# Altium schematic symbol library J.SchLib: 141 symbols (part 2 of 2)
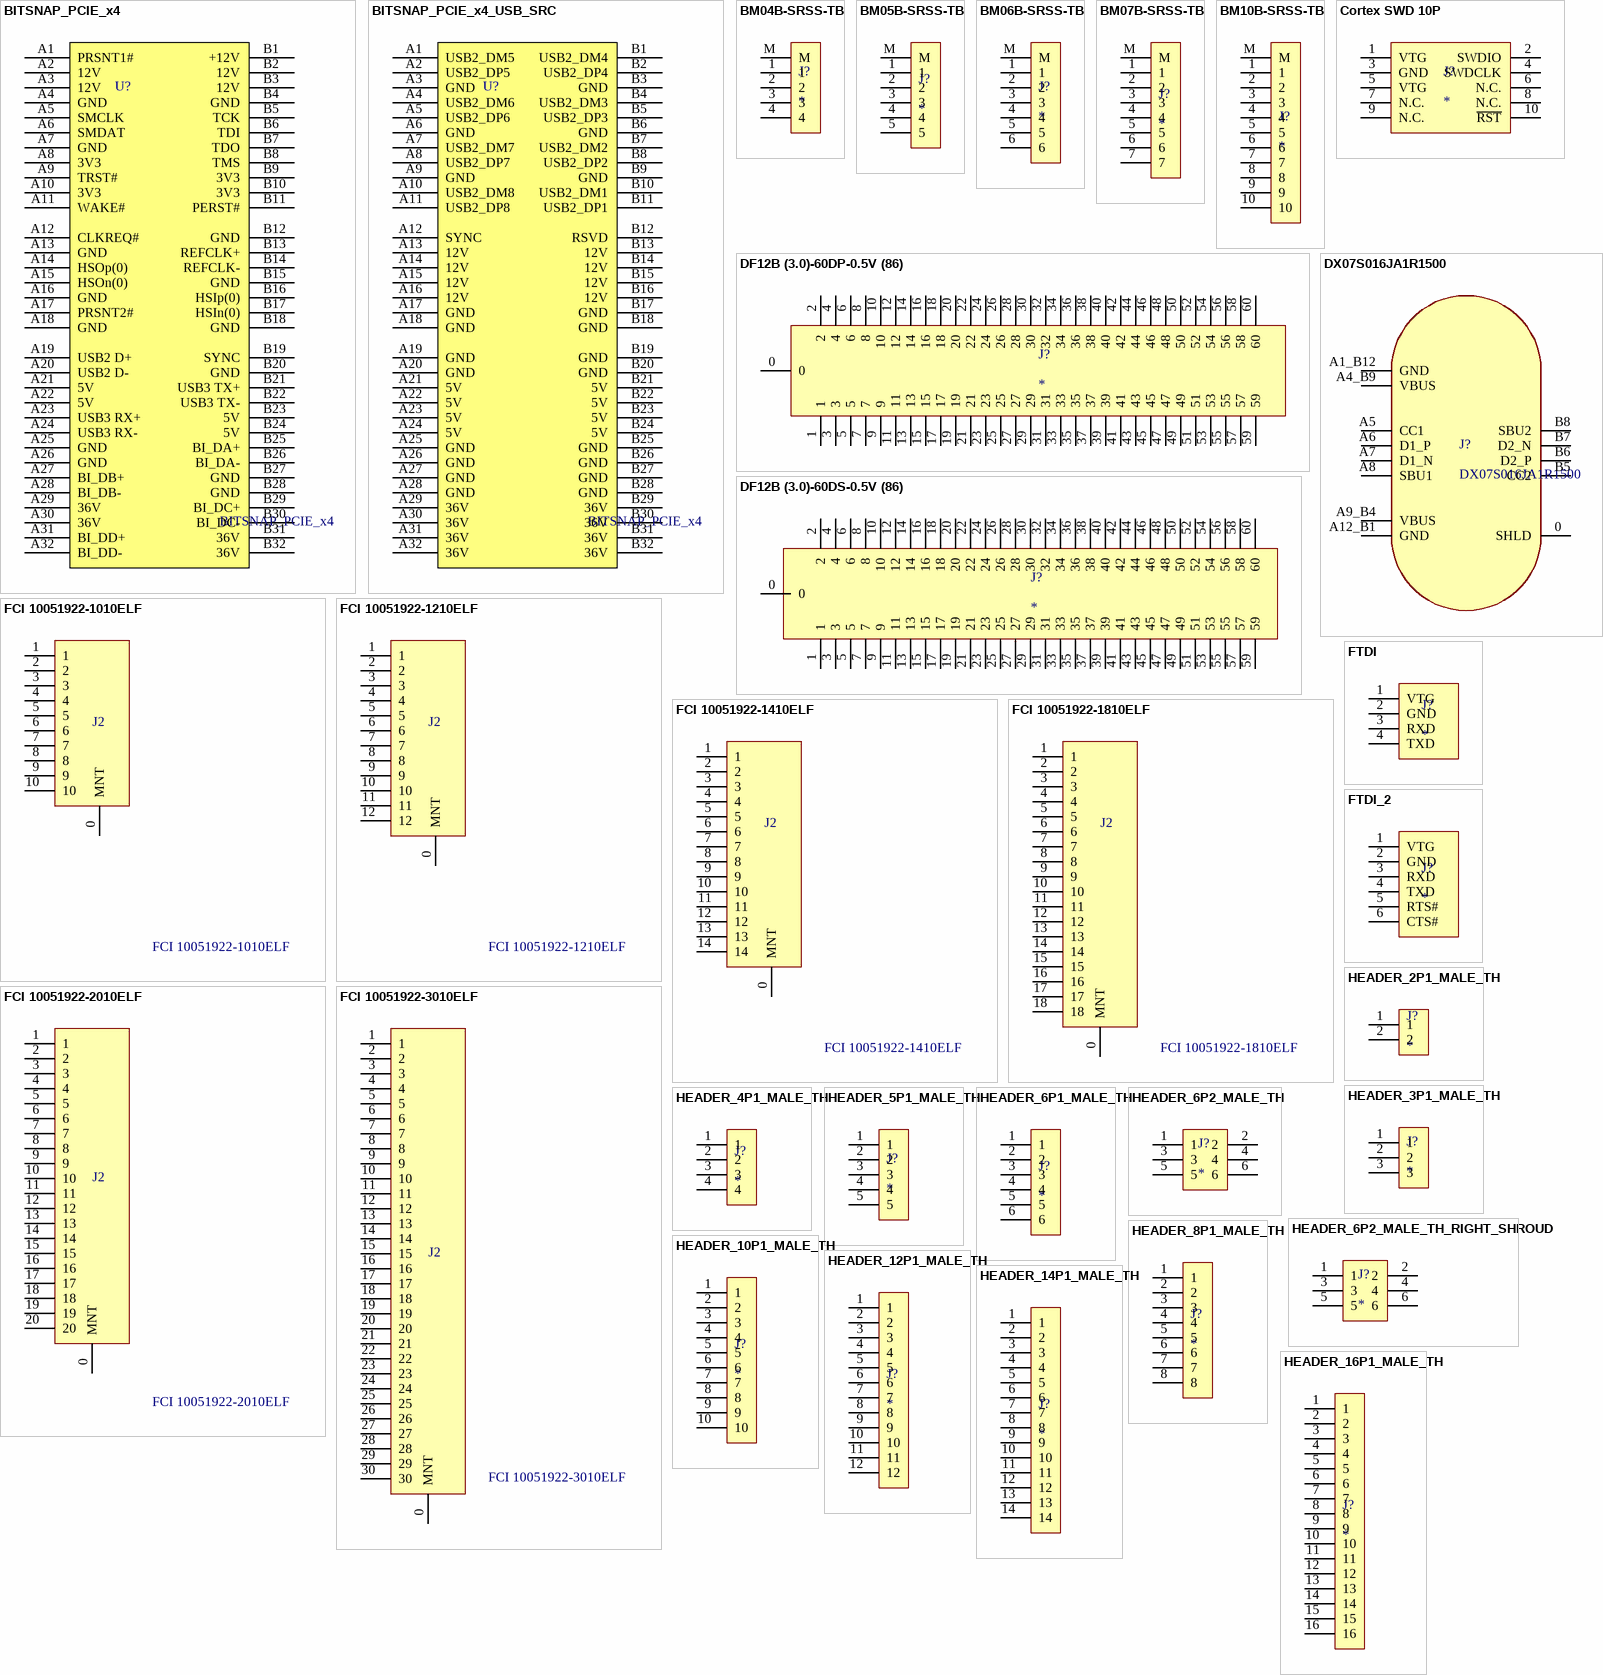
[diagram p5: symbols BITSNAP_PCIE_x4 to HEADER_16P1_MALE_TH]

## HEADER_10P1_MALE_TH
designator J?
HEADER, 2.54MM, THT, 10PIN 1ROW
footprint HEADER_10P1_MALE_TH (Through Hole Header 10 Pin 1 Row 2.54mm)
pins: 1, 2, 3, 4, 5, 6, 7, 8, 9, 10

## HEADER_12P1_MALE_TH
designator J?
HEADER, 2.54MM, THT, 12PIN 1ROW
footprint HEADER_12P1_FEMALE_TH (Through Hole Header 12 Pin 1 Row 2.54mm)
footprint HEADER_12P1_MALE_TH (Through Hole Header 12 Pin 1 Row 2.54mm)
pins: 1, 2, 3, 4, 5, 6, 7, 8, 9, 10, 11, 12

## HEADER_14P1_MALE_TH
designator J?
HEADER, 2.54MM, THT, 14PIN 1ROW
footprint HEADER_14P1_FEMALE_TH (Through Hole Header 14 Pin 1 Row 2.54mm)
footprint HEADER_14P1_MALE_TH (Through Hole Header 14 Pin 1 Row 2.54mm)
pins: 1, 2, 3, 4, 5, 6, 7, 8, 9, 10, 11, 12, 13, 14

## HEADER_16P1_MALE_TH
designator J?
HEADER, 2.54MM, THT, 16PIN 1ROW
footprint HEADER_16P1_FEMALE_TH (Through Hole Header 16 Pin 1 Row 2.54mm)
footprint HEADER_16P1_MALE_TH (Through Hole Header 16 Pin 1 Row 2.54mm)
pins: 1, 2, 3, 4, 5, 6, 7, 8, 9, 10, 11, 12, 13, 14, 15, 16

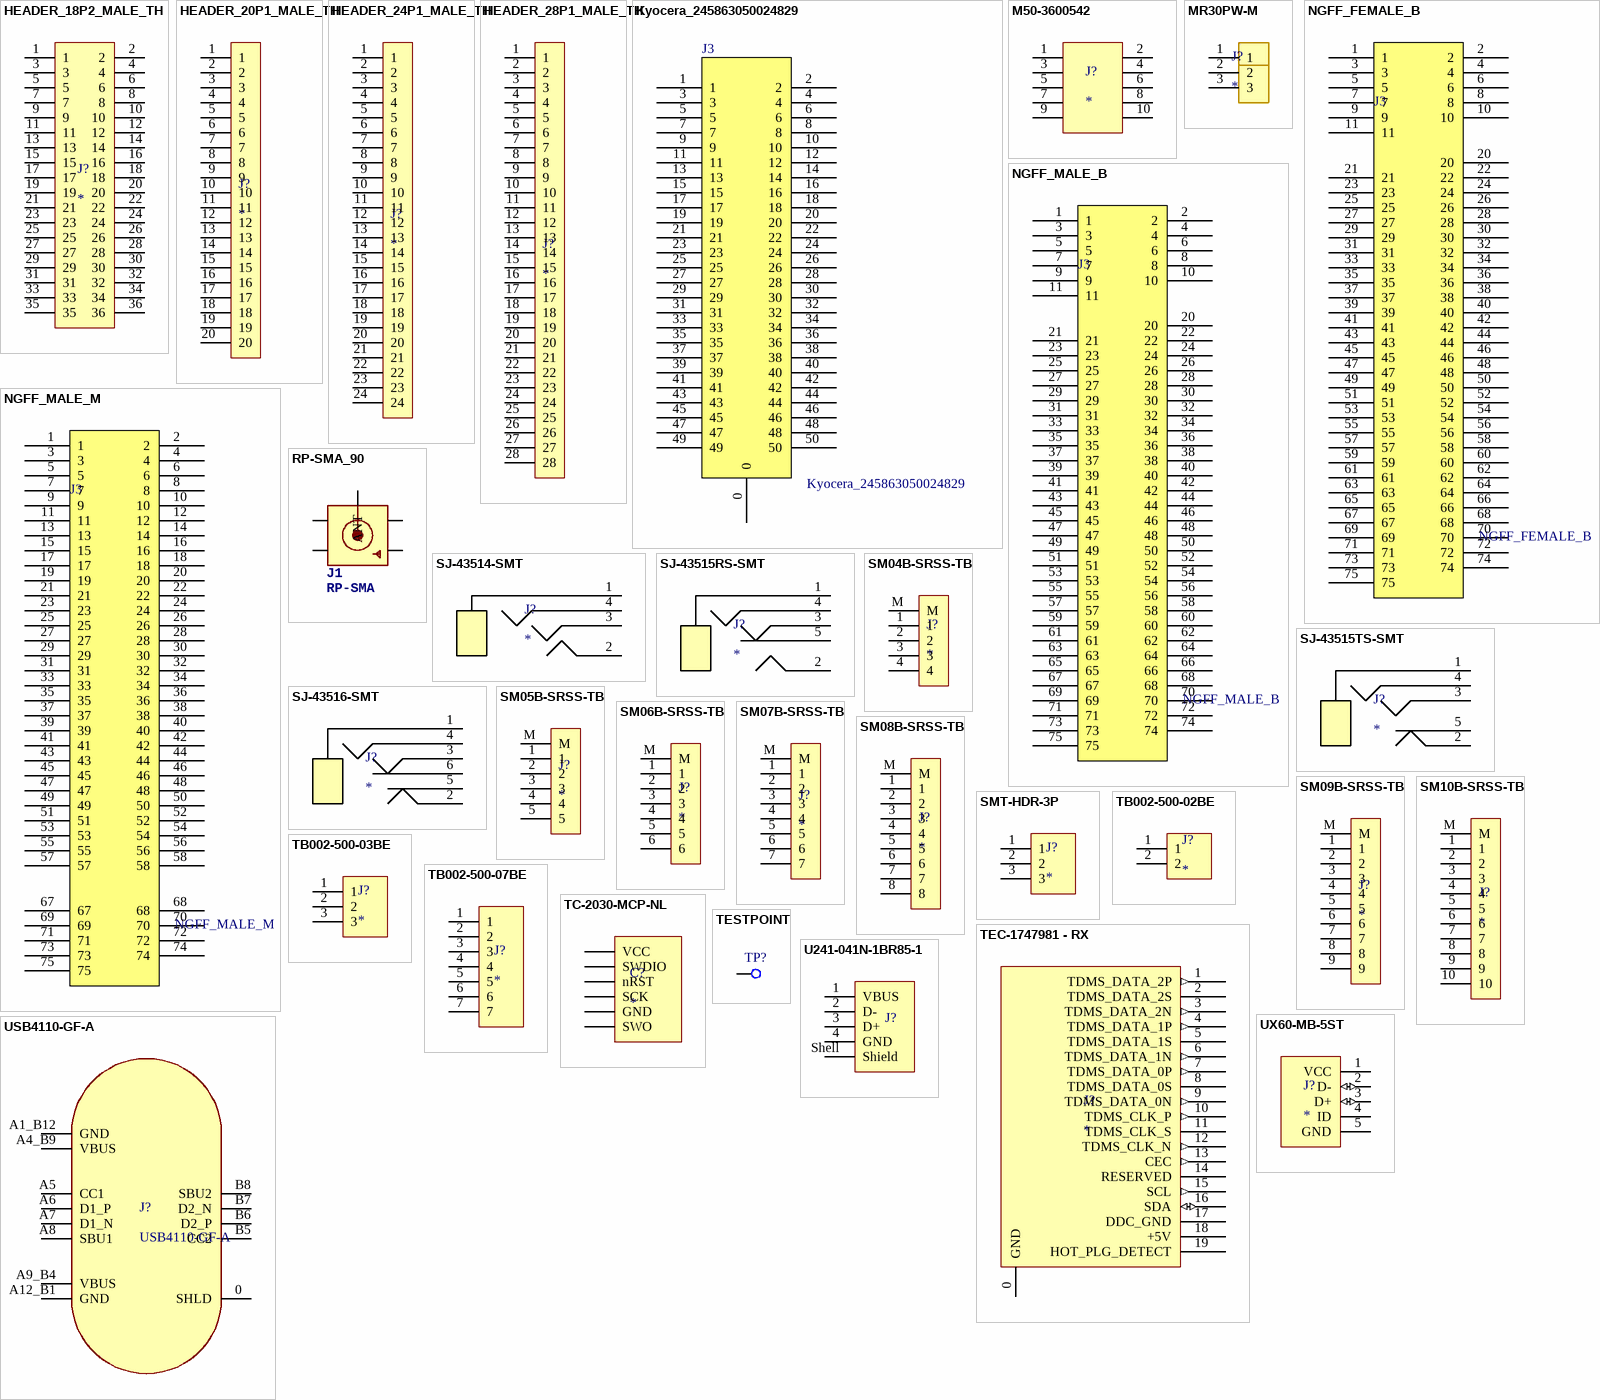
[diagram p3: symbols HEADER_18P2_MALE_TH to UX60-MB-5ST]

## HEADER_18P2_MALE_TH
designator J?
HEADER, 2.54MM, THT, 18PIN 2ROW
footprint HEADER_18P2_MALE_TH (Through Hole Header 16 Pin 2 Row 2.54mm)
pins: 1, 2, 3, 4, 5, 6, 7, 8, 9, 10, 11, 12, 13, 14, 15, 16, 17, 18, 19, 20, 21, 22, 23, 24, 25, 26, 27, 28, 29, 30, 31, 32, 33, 34, 35, 36

## HEADER_20P1_MALE_TH
designator J?
HEADER, 2.54MM, THT, 20PIN 1ROW
footprint HEADER_20P1_FEMALE_TH (Through Hole Header 20 Pin 1 Row 2.54mm)
footprint HEADER_20P1_MALE_TH (Through Hole Header 20 Pin 1 Row 2.54mm)
pins: 1, 2, 3, 4, 5, 6, 7, 8, 9, 10, 11, 12, 13, 14, 15, 16, 17, 18, 19, 20

## HEADER_24P1_MALE_TH
designator J?
HEADER, 2.54MM, THT, 24PIN 1ROW
footprint HEADER_24P1_FEMALE_TH (Footprint not found)
footprint HEADER_24P1_MALE_TH (Through Hole Header 24 Pin 1 Row 2.54mm)
pins: 1, 2, 3, 4, 5, 6, 7, 8, 9, 10, 11, 12, 13, 14, 15, 16, 17, 18, 19, 20, 21, 22, 23, 24

## HEADER_28P1_MALE_TH
designator J?
HEADER, 2.54MM, THT, 28PIN 1ROW
footprint HEADER_28P1_FEMALE_TH (Through Hole Header 28 Pin 1 Row 2.54mm)
footprint HEADER_28P1_MALE_TH (Through Hole Header 28 Pin 1 Row 2.54mm)
pins: 1, 2, 3, 4, 5, 6, 7, 8, 9, 10, 11, 12, 13, 14, 15, 16, 17, 18, 19, 20, 21, 22, 23, 24, 25, 26, 27, 28

## Kyocera_245863050024829
designator J3
245863050024829; Manufacturer: Kyocera; Manufacturer P/N: 245863050024829
footprint Kyocera_245863050024829
pins: 0, 1, 2, 3, 4, 5, 6, 7, 8, 9, 10, 11, 12, 13, 14, 15, 16, 17, 18, 19, 20, 21, 22, 23, 24, 25, 26, 27, 28, 29, 30, 31, 32, 33, 34, 35, 36, 37, 38, 39, 40, 41, 42, 43, 44, 45, 46, 47, 48, 49, 50

## M50-3600542
designator J?
HEADER, 1.27MM, SMT, 10PIN 2ROW
footprint M50-3600542 (Header 1.27mm 10P)
pins: 1, 2, 3, 4, 5, 6, 7, 8, 9, 10

## MR30PW-M
designator J?
MR30PW-M SOCKET, HORIZ
footprint MR30PW-M
pins: 1, 2, 3

## NGFF_FEMALE_B
designator J3
NGFF Female Socket, B Key; Manufacturer: Kyocera; Manufacturer P/N: 245863050024829
footprint 2199119-1 (NGFF B Key, Female)
pins: 1, 2, 3, 4, 5, 6, 7, 8, 9, 10, 11, 20, 21, 22, 23, 24, 25, 26, 27, 28, 29, 30, 31, 32, 33, 34, 35, 36, 37, 38, 39, 40, 41, 42, 43, 44, 45, 46, 47, 48, 49, 50, 51, 52, 53, 54, 55, 56, 57, 58, 59, 60, 61, 62, 63, 64, 65, 66, 67, 68, 69, 70, 71, 72, 73, 74, 75

## NGFF_MALE_B
designator J3
NGFF Male Finger, B Key; Manufacturer: Kyocera; Manufacturer P/N: 245863050024829
footprint NGFF_MALE_B (NGFF B Key, Male)
pins: 1, 2, 3, 4, 5, 6, 7, 8, 9, 10, 11, 20, 21, 22, 23, 24, 25, 26, 27, 28, 29, 30, 31, 32, 33, 34, 35, 36, 37, 38, 39, 40, 41, 42, 43, 44, 45, 46, 47, 48, 49, 50, 51, 52, 53, 54, 55, 56, 57, 58, 59, 60, 61, 62, 63, 64, 65, 66, 67, 68, 69, 70, 71, 72, 73, 74, 75

## NGFF_MALE_M
designator J3
NGFF Male Finger, M Key; Manufacturer: Kyocera; Manufacturer P/N: 245863050024829
footprint NGFF_MALE_M (NGFF M Key, Male)
pins: 1, 2, 3, 4, 5, 6, 7, 8, 9, 10, 11, 12, 13, 14, 15, 16, 17, 18, 19, 20, 21, 22, 23, 24, 25, 26, 27, 28, 29, 30, 31, 32, 33, 34, 35, 36, 37, 38, 39, 40, 41, 42, 43, 44, 45, 46, 47, 48, 49, 50, 51, 52, 53, 54, 55, 56, 57, 58, 67, 68, 69, 70, 71, 72, 73, 74, 75

## RP-SMA_90
designator J1, comment RP-SMA
SMA Connector, 50 Ohm, 90°; AUTHOR: KTOWN
footprint SMA_EDGELAUNCH_UFL
footprint RP-SMA_HORIZONTAL (RP-SMA Card Edge Connector)
pins: 0 GND1 (power), 0 GND2 (power), 0 GND3 (power), 0 GND4 (power), 1 ANT

## SJ-43514-SMT
designator J?
3.5mm Phone Connectors Audio Jacks
footprint SJ-43524-SMT (PHONE_JACK_.3.5MM)
pins: 1 SLEEVE, 2 TIP, 3 RING, 4

## SJ-43515RS-SMT
designator J?
3.5mm Phone Connectors Audio Jacks, 4 Contact, Ring Sw
footprint SJ-43515RS-SMT (PHONE_JACK_.3.5MM_4Ring_RingSw)
pins: 1 SLEEVE_GND, 2 TIP, 3 RING_R, 4 RING_MIC, 5 RING_SWITCH

## SJ-43515TS-SMT
designator J?
3.5mm Phone Connectors Audio Jacks, 4 Contact, Ring Sw
footprint SJ-43515TS-SMT (PHONE_JACK_.3.5MM_4Ring_TipSw)
pins: 1 SLEEVE_GND, 2 TIP, 3 RING_R, 4 RING_MIC, 5 TIP_SWITCH

## SJ-43516-SMT
designator J?
3.5mm Phone Connectors Audio Jacks 4 Contact
footprint SJ-43516-SMT (PHONE_JACK_.3.5MM_4Ring_RingSw_TipSw)
pins: 1 SLEEVE_GND, 2 TIP, 3 RING_R, 4 RING_MIC, 5 TIP_SWITCH, 6 RING_R_SW

## SM04B-SRSS-TB
designator J?
JST SH 4PIN RIGHT ANGLE; JLC Availability: None; LCSC Part #: C160404
footprint SM04B-SRSS-TB (JST SH 1.0MM 4P HORIZONTAL)
pins: 1, 2, 3, 4, M

## SM05B-SRSS-TB
designator J?
JST SH 5PIN RIGHT ANGLE; JLC Availability: None; LCSC Part #: C136657
footprint SM05B-SRSS-TB (JST SH 1.0MM 5P HORIZONTAL)
pins: 1, 2, 3, 4, 5, M

## SM06B-SRSS-TB
designator J?
JST SH 6PIN HORIZONTAL; LCSC Part #: C160405; JLC Availability: None
footprint SM06B-SRSS-TB (JST SH 1.0MM 6P HORIZONTAL)
pins: 1, 2, 3, 4, 5, 6, M

## SM07B-SRSS-TB
designator J?
JST SH 7PIN HORIZONTAL; LCSC Part #: C160406; JLC Availability: None
footprint SM07B-SRSS-TB (JST SH 1.0MM 7P HORIZONTAL)
pins: 1, 2, 3, 4, 5, 6, 7, M

## SM08B-SRSS-TB
designator J?
JST SH 8PIN HORIZONTAL; LCSC Part #: C160407; JLC Availability: None
footprint SM08B-SRSS-TB (JST SH 1.0MM 8P HORIZONTAL)
pins: 1, 2, 3, 4, 5, 6, 7, 8, M

## SM09B-SRSS-TB
designator J?
JST SH 9PIN HORIZONTAL; LCSC Part #: C160408; JLC Availability: None
footprint SM09B-SRSS-TB (JST SH 1.0MM 9P HORIZONTAL)
pins: 1, 2, 3, 4, 5, 6, 7, 8, 9, M

## SM10B-SRSS-TB
designator J?
JST SH 10PIN HORIZONTAL; LCSC Part #: C160409; JLC Availability: None
footprint SM10B-SRSS-TB (JST SH 1.0MM 10P HORIZONTAL)
footprint SM10B-SRSS-TB-POGOPADS (JST SH 1.0MM 10P HORIZONTAL WITH POGOPADS)
pins: 1, 2, 3, 4, 5, 6, 7, 8, 9, 10, M

## SMT-HDR-3P
designator J?
HEADER, 2.54MM, SMT, 3PIN 1ROW
footprint HEADER_3P_SMT (SMT HEADER 3P)
pins: 1, 2, 3

## TB002-500-02BE
designator J?
TERMINAL, SCREW, 5MM, 2PIN
footprint TERMINAL_SCREW_5MM_2P_1R (SCREW TERMINAL 5MM 2POS)
pins: 1, 2

## TB002-500-03BE
designator J?
TERMINAL, SCREW, 5MM, 3PIN
footprint TERMINAL_SCREW_5MM_3P_1R (SCREW TERMINAL 5MM 3POS)
pins: 1, 2, 3

## TB002-500-07BE
designator J?
TERMINAL, SCREW, 5MM, 7PIN
footprint TERMINAL_SCREW_5MM_7P_1R (SCREW TERMINAL 5MM 7POS)
pins: 1, 2, 3, 4, 5, 6, 7

## TC-2030-MCP-NL
designator C?
TagConnect ICSP
footprint TC2030-MCP-NL
footprint TC2030-MCP-NL - DUALSIDE
pins: 1 VCC "/MCLR", 2 SWDIO "Vcc", 3 nRST "GND", 4 SCK "PGD", 5 GND "PGC", 6 SWO "PGC"
1 alternate drawing of the same symbol

## TEC-1747981 - RX
designator J?
HDMI Receptacle, SMT, Right Angle
footprint TEC-1747981 (19 Pin HDMI)
pins: 0 GND, 1 TDMS_DATA_2P (out), 2 TDMS_DATA_2S, 3 TDMS_DATA_2N (out), 4 TDMS_DATA_1P (out), 5 TDMS_DATA_1S, 6 TDMS_DATA_1N (out), 7 TDMS_DATA_0P (out), 8 TDMS_DATA_0S, 9 TDMS_DATA_0N (out), 10 TDMS_CLK_P (out), 11 TDMS_CLK_S, 12 TDMS_CLK_N (out), 13 CEC (out), 14 RESERVED, 15 SCL (out), 16 SDA (io), 17 DDC_GND (power), 18 +5V (power), 19 HOT_PLG_DETECT

## TESTPOINT
designator TP?  (value not drawn)
Test Point
footprint TESTPOINT
pins: 0

## U241-041N-1BR85-1
designator J?
USB Type B Female USB 2 4 Through Hole USB Connectors RoHS; ComponentLink1Description: Manufacturer; ComponentLink1URL: http://www.we-online.de; ComponentLink2Description: Datasheet; ComponentLink2URL: https://katalog.we-online.de/em/datasheet/61410416121R.pdf; LCSC Part #: C397338
footprint 61410416121R
pins: 1 VBUS, 2 D-, 3 D+, 4 GND, Shell Shield

## USB4110-GF-A
designator J?
USB, Type C, Recepticle, SMT, 90°
footprint USB4110-GF-A (USB-C (USB TYPE-C) USB 2.0 Receptacle Connector 24 (16+8 Dummy) Position Surface Mount, Right Angle)
pins: 0 SHLD, A1_B12 GND, A4_B9 VBUS (power), A5 CC1, A6 D1_P, A7 D1_N, A8 SBU1, A9_B4 VBUS (power), A12_B1 GND, B5 CC2, B6 D2_P, B7 D2_N, B8 SBU2

## UX60-MB-5ST
designator J?
USB Connectors MINI B RECEPT RA SMT W/ POST
pins: 1 VCC (power), 2 D- (io), 3 D+ (io), 4 ID, 5 GND

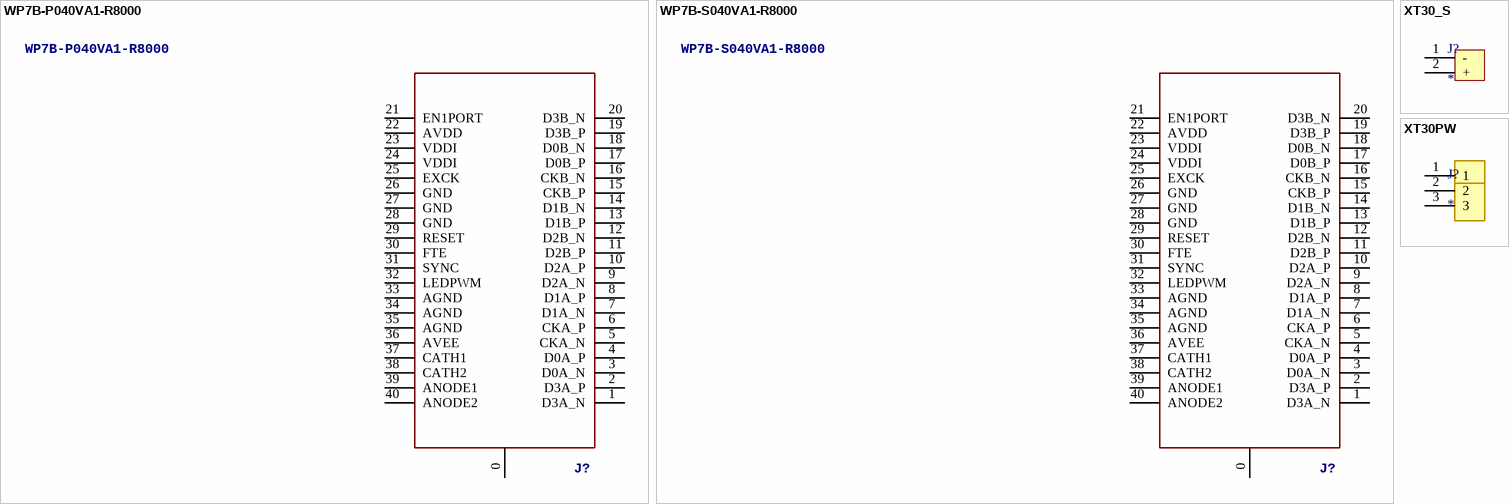
[diagram p4: symbols WP7B-P040VA1-R8000 to XT30PW]

## WP7B-P040VA1-R8000
designator J?
JAE WP7 40P PLUG
footprint WP7B-P040VA1-R8000 (Footprint not found)
pins: 0 GND, 1 D3A_N, 2 D3A_P, 3 D0A_N, 4 D0A_P, 5 CKA_N, 6 CKA_P, 7 D1A_N, 8 D1A_P, 9 D2A_N, 10 D2A_P, 11 D2B_P, 12 D2B_N, 13 D1B_P, 14 D1B_N, 15 CKB_P, 16 CKB_N, 17 D0B_P, 18 D0B_N, 19 D3B_P, 20 D3B_N, 21 EN1PORT, 22 AVDD, 23 VDDI, 24 VDDI, 25 EXCK, 26 GND, 27 GND, 28 GND, 29 RESET, 30 FTE, 31 SYNC, 32 LEDPWM, 33 AGND, 34 AGND, 35 AGND, 36 AVEE, 37 CATH1, 38 CATH2, 39 ANODE1, 40 ANODE2

## WP7B-S040VA1-R8000
designator J?
JAE WP7 40P RECEPITCLE
footprint WP7B-S040VA1-R8000
pins: 0 GND, 1 D3A_N, 2 D3A_P, 3 D0A_N, 4 D0A_P, 5 CKA_N, 6 CKA_P, 7 D1A_N, 8 D1A_P, 9 D2A_N, 10 D2A_P, 11 D2B_P, 12 D2B_N, 13 D1B_P, 14 D1B_N, 15 CKB_P, 16 CKB_N, 17 D0B_P, 18 D0B_N, 19 D3B_P, 20 D3B_N, 21 EN1PORT, 22 AVDD, 23 VDDI, 24 VDDI, 25 EXCK, 26 GND, 27 GND, 28 GND, 29 RESET, 30 FTE, 31 SYNC, 32 LEDPWM, 33 AGND, 34 AGND, 35 AGND, 36 AVEE, 37 CATH1, 38 CATH2, 39 ANODE1, 40 ANODE2

## XT30_S
designator J?
XT30 SOCKET, VERTICAL
footprint XT30 SOCKET
pins: 1 -, 2 +

## XT30PW
designator J?
MR30PW-M SOCKET, HORIZ
footprint MR30PW-M
pins: 1, 2, 3